# Altium footprint library as14120.PcbLib: 33 footprints (part 2 of 3)
Each footprint in its own frame and in the unit in brackets; x right, y up, seen from the top. Pads: shape width x height; smd on the part's side, far side on the other; paste and mask are expansions set on the pad; w line width, h text height; cw(c..) or ccw(c..) is an arc to the next point about the centre after c.
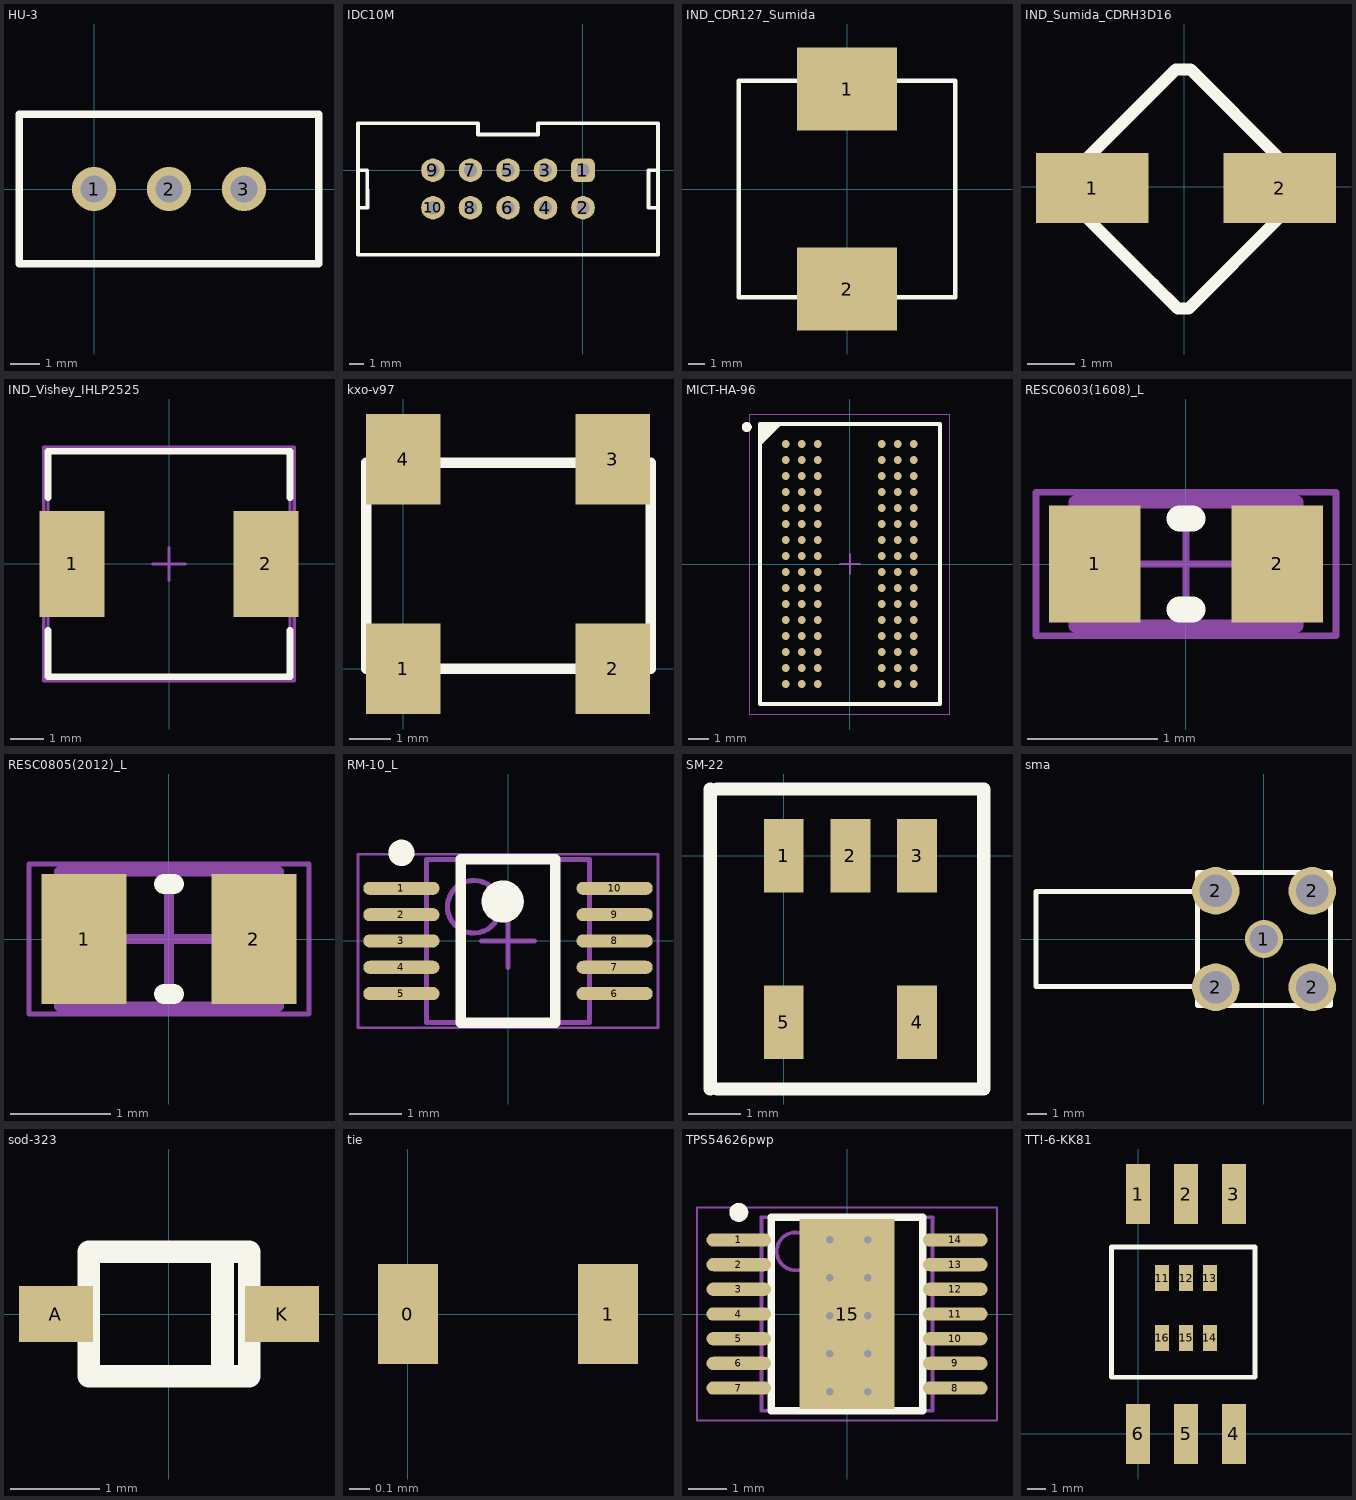
[diagram p1: the footprints below, top view; thin cyan lines are the x and y axes]

## HU-3 [mm]
height 10
pads (3):
  round 1.5 hole 0.9: 1(0,0) 2(2.54,0) 3(5.08,0)
Top Overlay:
  lines w0.254: -2.54,-2.54 7.62,-2.54 7.62,2.54 -2.54,2.54 -2.54,-2.54

## IDC10M [mm]
height 3
pads (10):
  rrect50% 1.6x1.6 hole 0.9: 1(0,0)
  round 1.6 hole 0.9: 2(0,-2.54) 3(-2.54,0) 4(-2.54,-2.54) 5(-5.08,0) 6(-5.08,-2.54) 7(-7.62,0) 8(-7.62,-2.54) 9(-10.16,0) 10(-10.16,-2.54)
Top Overlay:
  lines w0.254: -15.24,-2.54 -14.605,-2.54 -14.605,0 -15.24,0 ; 5.08,-2.54 4.445,-2.54 4.445,0 5.08,0 ; -15.24,-5.715 5.08,-5.715 5.08,3.175 -3.048,3.175 -3.048,2.413 -7.112,2.413 -7.112,3.175 -15.24,3.175 -15.24,-5.715
3D body: height 9.3, standoff -2.79, extent -15.23,-5.47 5.07,2.93

## IND_CDR127_Sumida [mm]
height 8
pads (2):
  rect 6x5 smd: 1(0,6) 2(0,-6)
Top Overlay:
  lines w0.254: -6.5,-6.5 -6.5,6.5 6.5,6.5 6.5,-6.5 -6.5,-6.5
3D body: height 7, standoff -0.45, extent -6.171,-6 6.171,6

## IND_Sumida_CDRH3D16 [mm] "Precision Wire Wound Inductor, 2-Leads, Body 5,10x4,55mm, IPC Medium Density"
height 2
pads (2):
  rect 2.4x1.5 smd: 1(-1.962,-0.029) 2(2.038,-0.029)
Top Overlay:
  lines w0.254: -2.144,-0.595 -0.659,-2.08 -0.138,-2.6 0.094,-2.6 2.038,-0.656 2.038,0.597 0.136,2.5 -0.18,2.5 -2.144,0.536 -2.144,-0.595

## IND_Vishey_IHLP2525 [mm] "SM Inductor; 2 Leads; Body 7.3x6.6mm (LxW)"
height 3
pads (2):
  rect 1.95x3.2 smd: 1(-2.925,0) 2(2.925,0)
Top Overlay:
  lines w0.2: -3.65,-2 -3.65,-3.4 3.65,-3.4 3.65,-2 ; -3.65,2 -3.65,3.4 3.65,3.4 3.65,2
Mechanical 13:
  lines w0.1: -3.65,-3.4 3.65,-3.4 3.65,3.4 -3.65,3.4 -3.65,-3.4
Mechanical 15:
  lines w0.1: -0.5,0 0.5,0 ; 0,-0.5 0,0.5 ; -3.775,-3.525 3.775,-3.525 3.775,3.525 -3.775,3.525 -3.775,-3.525
3D body: height 3, standoff 0, extent 0,0 0,0
3D body: height 3, standoff 0, extent -3.65,-3.4 3.65,3.4

## kxo-v97 [mm]
height 2
pads (4):
  rect 1.8x2.2 smd: 1(0,0) 2(5.08,0) 3(5.08,5.08) 4(0,5.08)
Top Overlay:
  lines w0.254: -0.9,0 6,0 6,5 -0.9,5 -0.9,0

## MICT-HA-96 [mm] "BGA, 96-Balls, Body 14x9mm, Pitch 0.8mm"
height 1
pads (96):
  round 0.4 smd mask+0: A1(-3.2,6) A2(-2.4,6) A3(-1.6,6) A7(1.6,6) A8(2.4,6) A9(3.2,6) B1(-3.2,5.2) B2(-2.4,5.2) B3(-1.6,5.2) B7(1.6,5.2) B8(2.4,5.2) B9(3.2,5.2) C1(-3.2,4.4) C2(-2.4,4.4) C3(-1.6,4.4) C7(1.6,4.4) C8(2.4,4.4) C9(3.2,4.4) D1(-3.2,3.6) D2(-2.4,3.6) D3(-1.6,3.6) D7(1.6,3.6) D8(2.4,3.6) D9(3.2,3.6) E1(-3.2,2.8) E2(-2.4,2.8) E3(-1.6,2.8) E7(1.6,2.8) E8(2.4,2.8) E9(3.2,2.8) F1(-3.2,2) F2(-2.4,2) F3(-1.6,2) F7(1.6,2) F8(2.4,2) F9(3.2,2) G1(-3.2,1.2) G2(-2.4,1.2) G3(-1.6,1.2) G7(1.6,1.2) G8(2.4,1.2) G9(3.2,1.2) H1(-3.2,0.4) H2(-2.4,0.4) H3(-1.6,0.4) H7(1.6,0.4) H8(2.4,0.4) H9(3.2,0.4) J1(-3.2,-0.4) J2(-2.4,-0.4) J3(-1.6,-0.4) J7(1.6,-0.4) J8(2.4,-0.4) J9(3.2,-0.4) K1(-3.2,-1.2) K2(-2.4,-1.2) K3(-1.6,-1.2) K7(1.6,-1.2) K8(2.4,-1.2) K9(3.2,-1.2) L1(-3.2,-2) L2(-2.4,-2) L3(-1.6,-2) L7(1.6,-2) L8(2.4,-2) L9(3.2,-2) M1(-3.2,-2.8) M2(-2.4,-2.8) M3(-1.6,-2.8) M7(1.6,-2.8) M8(2.4,-2.8) M9(3.2,-2.8) N1(-3.2,-3.6) N2(-2.4,-3.6) N3(-1.6,-3.6) N7(1.6,-3.6) N8(2.4,-3.6) N9(3.2,-3.6) P1(-3.2,-4.4) P2(-2.4,-4.4) P3(-1.6,-4.4) P7(1.6,-4.4) P8(2.4,-4.4) P9(3.2,-4.4) R1(-3.2,-5.2) R2(-2.4,-5.2) R3(-1.6,-5.2) R7(1.6,-5.2) R8(2.4,-5.2) R9(3.2,-5.2) T1(-3.2,-6) T2(-2.4,-6) T3(-1.6,-6) T7(1.6,-6) T8(2.4,-6) T9(3.2,-6)
Top Overlay:
  circle w0.25: c-5.15,6.85 r0.125
  region: -3.5,7 -4.5,6 -4.5,7
  lines w0.2: -4.5,6 -3.5,7 ; -4.5,-7 -4.5,7 4.5,7 4.5,-7 -4.5,-7
Mechanical 13:
  lines w0.1: -4.5,-7 -4.5,7 4.5,7 4.5,-7 -4.5,-7
Mechanical 15:
  lines w0.05: -5,-7.5 -5,7.5 5,7.5 5,-7.5 -5,-7.5
  lines w0.1: -0.5,0 0.5,0 ; 0,-0.5 0,0.5
3D body: height 0.1, standoff 0, extent -4.5,-7 4.5,7

## RESC0603(1608)_L [mm] "Chip Resistor, Body 1.6x0.8mm, IPC High Density"
height 0.6
pads (2):
  rect 0.7x0.9 smd: 1(-0.7,0) 2(0.7,0)
Top Overlay:
  lines w0.2: -0.05,-0.35 0.05,-0.35 ; -0.05,0.35 0.05,0.35
Mechanical 13:
  lines w0.1: -0.85,-0.475 0.85,-0.475 0.85,0.475 -0.85,0.475 -0.85,-0.475
Mechanical 15:
  lines w0.05: -0.475,0 0.475,0 ; 0,-0.475 0,0.475 ; -1.15,-0.55 1.15,-0.55 1.15,0.55 -1.15,0.55 -1.15,-0.55
3D body: height 0.6, standoff 0, extent -0.849,-0.474 -0.58,0.475
3D body: height 0.6, standoff 0, extent -0.58,-0.474 0.581,0.475
3D body: height 0.6, standoff 0, extent 0.581,-0.474 0.85,0.475

## RESC0805(2012)_L [mm] "Chip Resistor, Body 2.0x1.3mm, IPC High Density"
height 0.7
pads (2):
  rect 0.85x1.3 smd: 1(-0.85,0) 2(0.85,0)
Top Overlay:
  lines w0.2: -0.05,-0.55 0.05,-0.55 ; -0.05,0.55 0.05,0.55
Mechanical 13:
  lines w0.1: -1.1,-0.675 1.1,-0.675 1.1,0.675 -1.1,0.675 -1.1,-0.675
Mechanical 15:
  lines w0.05: -1.4,-0.75 1.4,-0.75 1.4,0.75 -1.4,0.75 -1.4,-0.75
  lines w0.1: -0.5,0 0.5,0 ; 0,-0.5 0,0.5
3D body: height 0.7, standoff 0, extent 0.68,-0.675 1.1,0.675
3D body: height 0.7, standoff 0, extent -1.1,-0.675 -0.68,0.675
3D body: height 0.78, standoff 0, extent -1,-0.6 1,0.65

## RM-10_L [mm] "TSSOP, 10-Leads, Body 3x3mm, Pitch 0.5mm, IPC High Density"
height 1.1
pads (10):
  oval 1.45x0.25 smd: 1(-2.025,1) 2(-2.025,0.5) 3(-2.025,0) 4(-2.025,-0.5) 5(-2.025,-1) 6(2.025,-1) 7(2.025,-0.5) 8(2.025,0) 9(2.025,0.5) 10(2.025,1)
Top Overlay:
  circle w0.25: c-2.025,1.675 r0.125
  circle w0.4: c-0.1,0.75 r0.2
  lines w0.2: -0.9,-1.55 -0.9,1.55 0.9,1.55 0.9,-1.55 -0.9,-1.55
Mechanical 13:
  circle w0.1: c-0.65,0.65 r0.5
  lines w0.1: -1.55,-1.55 -1.55,1.55 1.55,1.55 1.55,-1.55 -1.55,-1.55
Mechanical 15:
  lines w0.05: -2.85,-1.65 -2.85,1.65 2.85,1.65 2.85,-1.65 -2.85,-1.65
  lines w0.1: -0.5,0 0.5,0 ; 0,-0.5 0,0.5
3D body: height 1.1, standoff 0, extent -1.55,-1.55 1.55,1.55

## SM-22 [mm]
height 3
pads (5):
  rect 0.76x1.4 smd: 1(0,0) 2(1.27,0) 3(2.54,0) 4(2.54,-3.175) 5(0,-3.175)
Top Overlay:
  lines w0.254: -1.4,-4.445 -1.4,1.27 ; -1.27,-4.445 3.81,-4.445 3.81,1.27 -1.27,1.27

## sma [mm]
height 10
pads (5):
  round 2 hole 1.5: 1(0,0)
  round 2.5 hole 1.7: 2(-2.54,-2.54) 2(-2.54,2.54) 2(2.54,-2.54) 2(2.54,2.54)
Top Overlay:
  lines w0.254: -3.5,-2.5 -12,-2.5 -12,2.5 -3.5,2.5 ; -3.5,-3.5 3.5,-3.5 3.5,3.5 -3.5,3.5 -3.5,-3.5
3D body: height 9.86, standoff -4.24, extent -11.55,-3.5 3.55,3.5
3D body: height 9.86, standoff -4.24, extent -11.6,-3.5 3.5,3.5

## sod-323 [mm]
pads (2):
  rect 0.83x0.63 smd: A(-1.267,0) K(1.268,0)
Top Overlay:
  lines w0.254: 0.6,-0.7 0.6,0.7 ; -0.9,-0.7 0.9,-0.7 0.9,0.7 -0.9,0.7 -0.9,-0.7

## tie [mm]
pads (2):
  rect 0.3x0.5 smd: 0(0,0) 1(1,0)

## TPS54626pwp [mm] "PowerPAD  ( R-PDSO-G14 )"
height 1.2
pads (15):
  oval 1.7x0.35 smd: 1(-2.85,1.95) 2(-2.85,1.3) 3(-2.85,0.65) 4(-2.85,0) 5(-2.85,-0.65) 6(-2.85,-1.3) 7(-2.85,-1.95) 8(2.85,-1.95) 9(2.85,-1.3) 10(2.85,-0.65) 11(2.85,0) 12(2.85,0.65) 13(2.85,1.3) 14(2.85,1.95)
  rect 2.5x5 smd: 15(0,0)
via -0.45,1.95 diameter 0.5 hole 0.2
via -0.45,0.95 diameter 0.5 hole 0.2
via -0.45,-0.05 diameter 0.5 hole 0.2
via -0.45,-1.05 diameter 0.5 hole 0.2
via -0.45,-2.05 diameter 0.5 hole 0.2
via 0.55,-2.05 diameter 0.5 hole 0.2
via 0.55,-0.05 diameter 0.5 hole 0.2
via 0.55,0.95 diameter 0.5 hole 0.2
via 0.55,-1.05 diameter 0.5 hole 0.2
via 0.55,1.95 diameter 0.5 hole 0.2
Top Overlay:
  circle w0.25: c-2.85,2.675 r0.125
  lines w0.2: 2,2.5 2,-2.55 -2,-2.55 -2,2.55 2,2.55
Mechanical 13:
  circle w0.1: c-1.35,1.65 r0.5
  lines w0.1: -2.25,-2.55 -2.25,2.55 2.25,2.55 2.25,-2.55 -2.25,-2.55
Mechanical 15:
  lines w0.05: -3.95,-2.8 -3.95,2.8 3.95,2.8 3.95,-2.8 -3.95,-2.8
  lines w0.1: -0.5,0 0.5,0 ; 0,-0.5 0,0.5
3D body: height 1.2, standoff 0.25, extent -2.25,-2.55 2.25,2.55

## TT!-6-KK81 [mm]
height 5.84
pads (12):
  rect 1.27x3.18 smd: 1(0,12.7) 2(2.54,12.7) 3(5.08,12.7) 4(5.08,0) 5(2.54,0) 6(0,0)
  rect 0.76x1.4 smd: 11(1.27,8.255) 12(2.54,8.255) 13(3.81,8.255) 14(3.81,5.08) 15(2.54,5.08) 16(1.27,5.08)
Top Overlay:
  lines w0.254: -1.4,3 6.2,3 6.2,9.9 -1.4,9.9 -1.4,3